# EAGLE library part TMP275AIDR (library TMP275AIDR)
0.5°C Digital Out Temperature Sensor
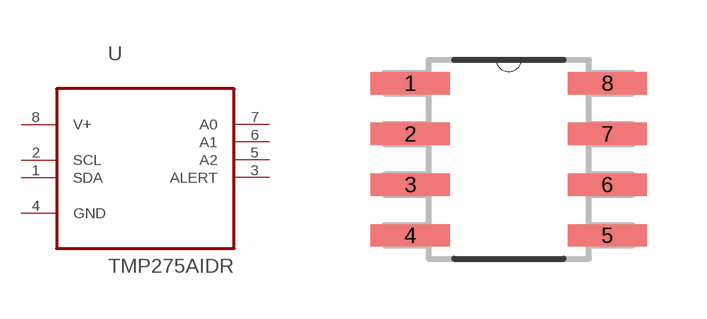
[diagram p0: symbol with the pads of SOIC127P600X175-8N; footprint SOIC127P600X175-8N]

Designator prefix U

## TMP275AIDR (Availability: Unavailable; Description: ?0.5?C _max_ Temperature Sensor with I2C/SMBus Interface in Industry Standard LM75 Form Factor & Pin 8-SOIC -40 to 125; MF: Texas Instruments; MP: TMP275AIDR; Package: SOIC-8 Texas Instruments; Price: None)  [SOIC127P600X175-8N]
1  SDA  in
2  SCL  in
3  ALERT  out
4  GND  pas
5  A2  out
6  A1  out
7  A0  out
8  V+  pwr

## Footprint SOIC127P600X175-8N (pad centres in mm)
smd 1.981 x 0.559: 1 -2.464,1.905; 2 -2.464,0.635; 3 -2.464,-0.635; 4 -2.464,-1.905; 5 2.464,-1.905; 6 2.464,-0.635; 7 2.464,0.635; 8 2.464,1.905